# Altium schematic symbol library INDUCTOR.SchLib: 7 symbols
Pins are listed as number, name and electrical type; pins without a type are passive.

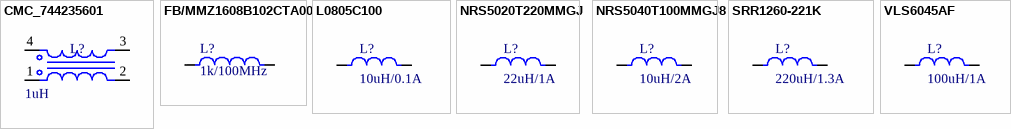
[diagram p0: symbols CMC_744235601 to VLS6045AF]

## CMC_744235601
designator L?, comment 1uH
Common Mode Chokes / Filters WE-CNSW 1812 1200mA 1uH 100kHz AECQ200; Manufacturer: Würth Elektronik; Part Number: 744282010; Distributor 1: Digikey; Distributor 1 ID: 732-2965-1-ND; Second Source: *; Value: 1uH
footprint 744235601
pins: 1, 2, 3, 4

## FB/MMZ1608B102CTA00
designator L?, comment 1k/100MHz
Ferrite Beads 1K OHM 25%; Manufacturer: TDK; Part Number: MMZ1608B102CTA00; Distributor: Mouser; Distributor ID: 810-MMZ1608B102CTA00
footprint FB_0603 (Chip Inductor, 2-Leads, Body 1.6x0.8mm)
pins: 1, 2

## L0805C100
designator L?, comment 10uH/0.1A
Fixed Inductors 10uH 10% Wound Chip; Manufacturer: KEMET; Part Number: L0805C100KPWST; Distributor: Mouser; Distributor ID: 80-L0805C100KPWST
footprint RES_0805N (Chip Resistor, 2-Leads, Body 2.1x1.35mm, IPC Medium Density)
pins: 1, 2

## NRS5020T220MMGJ
designator L?, comment 22uH/1A
Fixed Inductors 5020 22uH 312mOhms +/-20%Tol 900mA; Manufacturer: Taiyo Yuden; Part Number: NRS5020T220MMGJ; Distributor: Mouser; Distributor ID: 963-NRS5020T220MMGJ
footprint INDP4949X20N (Precision Wire Wound Inductor, 2-Leads, Body 4,90x4,90mm, IPC Medium Density)
pins: 1, 2

## NRS5040T100MMGJ8
designator L?, comment 10uH/2A
Fixed Inductors 10uH 20% 2.3A 0.056ohm; Manufacturer: Taiyo Yuden; Part Number: NRS5040T100MMGJ8; Distributor: Mouser; Distributor ID: 963-NRS5040T100MMGJ8
footprint INDP4949X20N (Precision Wire Wound Inductor, 2-Leads, Body 4,90x4,90mm, IPC Medium Density)
pins: 1, 2

## SRR1260-221K
designator L?, comment 220uH/1.3A
Fixed Inductors 220uH 10% SMD 1260; Manufacturer: Bourns; Part Number: SRR1260-221K; Distributor: Mouser; Distributor ID: 652-SRR1260-221K
footprint INDP125125X65N (Precision Wire Wound Inductor, 2-Leads, Body 12.50x12.50mm, IPC Medium Density)
pins: 1, 2

## VLS6045AF
designator L?, comment 100uH/1A
Fixed Inductors 100uH 20% 0.527ohms 1A 6x6x4.5mm; Manufacturer: TDK; Part Number: VLS6045AF-101M; Distributor: Mouser; Distributor ID: 810-VLS6045AF-101M
footprint INDP6060X45N (Precision Wire Wound Inductor, 2-Leads, Body 6,00x6,00mm, IPC Medium Density)
pins: 1, 2